# EAGLE library part IDUINO_DUE_PRO_DEVICE (library Iduino_DUE_Pro)
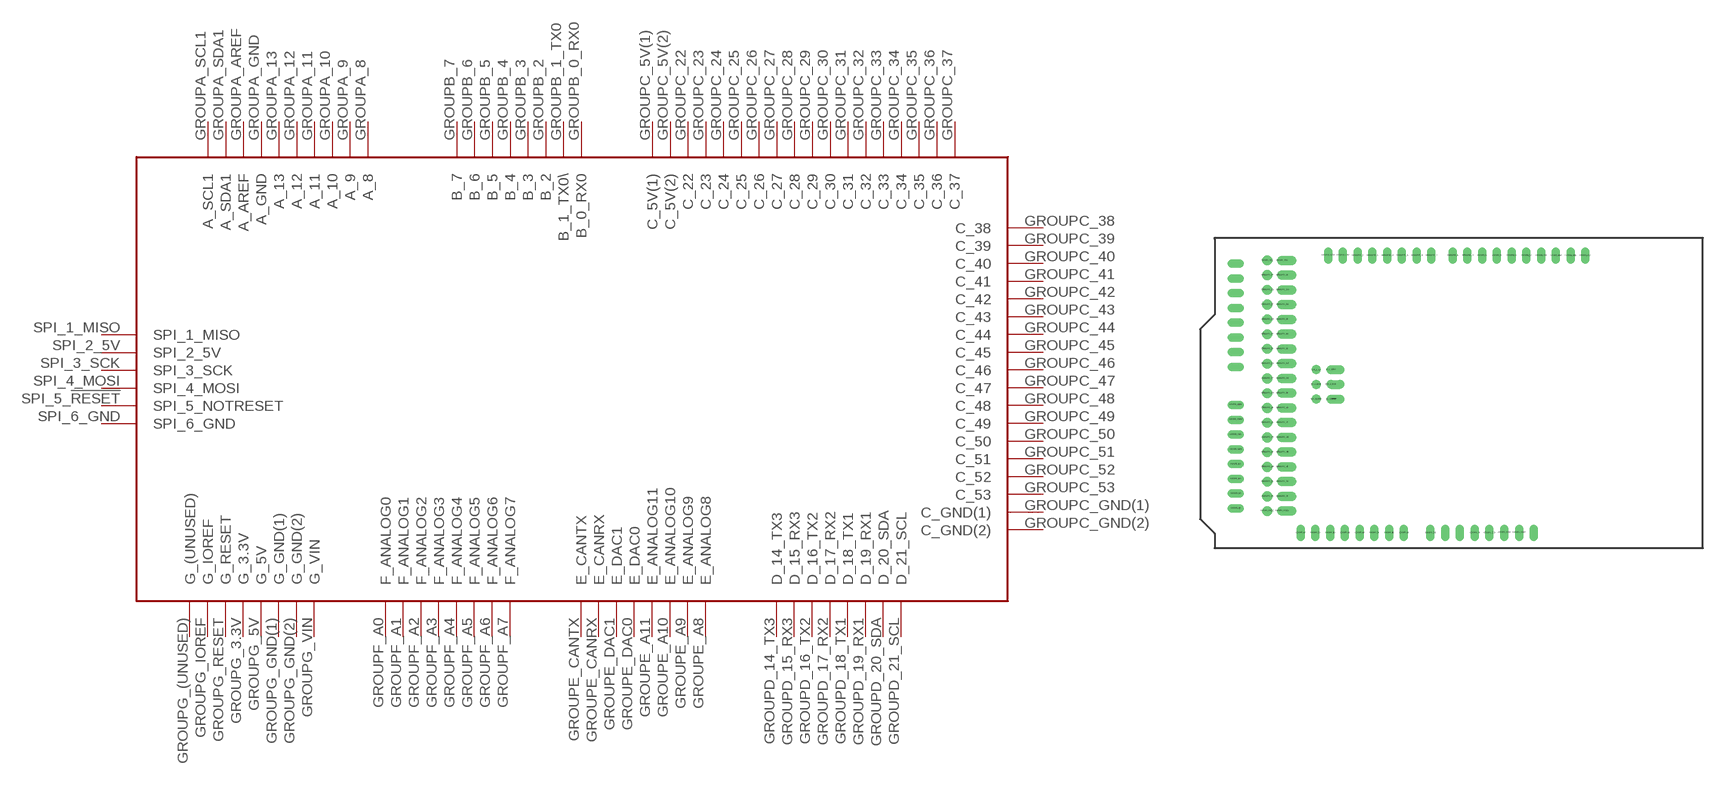
[diagram p0: symbol with the pads of ADCH_ARDUINO-DUE-V03; footprint ADCH_ARDUINO-DUE-V03]

Designator prefix -

## IDUINO_DUE_PRO_DEVICE  [ADCH_ARDUINO-DUE-V03]
GROUPA_8  A_8
GROUPA_9  A_9
GROUPA_10  A_10
GROUPA_11  A_11
GROUPA_12  A_12
GROUPA_13  A_13
GROUPA_AREF  A_AREF
GROUPA_GND  A_GND
GROUPA_SCL1  A_SCL1
GROUPA_SDA1  A_SDA1
GROUPB_0_RX0  B_0_RX0
GROUPB_1_TX0  B_1_TX0\
GROUPB_2  B_2
GROUPB_3  B_3
GROUPB_4  B_4
GROUPB_5  B_5
GROUPB_6  B_6
GROUPB_7  B_7
GROUPC_5V(1)  C_5V(1)
GROUPC_5V(2)  C_5V(2)
GROUPC_22  C_22
GROUPC_23  C_23
GROUPC_24  C_24
GROUPC_25  C_25
GROUPC_26  C_26
GROUPC_27  C_27
GROUPC_28  C_28
GROUPC_29  C_29
GROUPC_30  C_30
GROUPC_31  C_31
GROUPC_32  C_32
GROUPC_33  C_33
GROUPC_34  C_34
GROUPC_35  C_35
GROUPC_36  C_36
GROUPC_37  C_37
GROUPC_38  C_38
GROUPC_39  C_39
GROUPC_40  C_40
GROUPC_41  C_41
GROUPC_42  C_42
GROUPC_43  C_43
GROUPC_44  C_44
GROUPC_45  C_45
GROUPC_46  C_46
GROUPC_47  C_47
GROUPC_48  C_48
GROUPC_49  C_49
GROUPC_50  C_50
GROUPC_51  C_51
GROUPC_52  C_52
GROUPC_53  C_53
GROUPC_GND(1)  C_GND(1)
GROUPC_GND(2)  C_GND(2)
GROUPD_14_TX3  D_14_TX3
GROUPD_15_RX3  D_15_RX3
GROUPD_16_TX2  D_16_TX2
GROUPD_17_RX2  D_17_RX2
GROUPD_18_TX1  D_18_TX1
GROUPD_19_RX1  D_19_RX1
GROUPD_20_SDA  D_20_SDA
GROUPD_21_SCL  D_21_SCL
GROUPE_A8  E_ANALOG8
GROUPE_A9  E_ANALOG9
GROUPE_A10  E_ANALOG10
GROUPE_A11  E_ANALOG11
GROUPE_CANRX  E_CANRX
GROUPE_CANTX  E_CANTX
GROUPE_DAC0  E_DAC0
GROUPE_DAC1  E_DAC1
GROUPF_A0  F_ANALOG0
GROUPF_A1  F_ANALOG1
GROUPF_A2  F_ANALOG2
GROUPF_A3  F_ANALOG3
GROUPF_A4  F_ANALOG4
GROUPF_A5  F_ANALOG5
GROUPF_A6  F_ANALOG6
GROUPF_A7  F_ANALOG7
GROUPG_3.3V  G_3.3V
GROUPG_5V  G_5V
GROUPG_(UNUSED)  G_(UNUSED)
GROUPG_GND(1)  G_GND(1)
GROUPG_GND(2)  G_GND(2)
GROUPG_IOREF  G_IOREF
GROUPG_RESET  G_RESET
GROUPG_VIN  G_VIN
SPI_1_MISO  SPI_1_MISO
SPI_2_5V  SPI_2_5V
SPI_3_SCK  SPI_3_SCK
SPI_4_MOSI  SPI_4_MOSI
SPI_5_!RESET  SPI_5_NOTRESET
SPI_6_GND  SPI_6_GND

## Footprint ADCH_ARDUINO-DUE-V03 (pad centres in mm)
Package generated by make-group2pac.ulp from: D:/Documents/Google Drive/Y4S2/AERO3760 Space Engineering 2/PCB/arduino-Due-Reference-design/Arduino-DUE-V03.brd at: 24/08/2016 5:26 PM
drill 0.85 pad 1.422 long: GROUPA_8 43.344,50.3; GROUPA_9 45.884,50.3; GROUPA_10 48.424,50.3; GROUPA_11 50.964,50.3; GROUPA_12 53.504,50.3; GROUPA_13 56.044,50.3; GROUPA_AREF 61.124,50.3; GROUPA_GND 58.584,50.3; GROUPA_SCL1 66.204,50.3; GROUPA_SDA1 63.664,50.3; GROUPB_0_RX0 21.9,50.3; GROUPB_1_TX0 24.44,50.3; GROUPB_2 26.98,50.3; GROUPB_3 29.52,50.3; GROUPB_4 32.06,50.3; GROUPB_5 34.6,50.3; GROUPB_6 37.14,50.3; GROUPB_7 39.68,50.3; GROUPD_14_TX3 6,48.9; GROUPD_15_RX3 6,46.36; GROUPD_16_TX2 6,43.82; GROUPD_17_RX2 6,41.28; GROUPD_18_TX1 6,38.74; GROUPD_19_RX1 6,36.2; GROUPD_20_SDA 6,33.66; GROUPD_21_SCL 6,31.12; GROUPE_A8 6,6.77; GROUPE_A9 6,9.31; GROUPE_A10 6,11.85; GROUPE_A11 6,14.39; GROUPE_CANRX 6,22.01; GROUPE_CANTX 6,24.55; GROUPE_DAC0 6,16.93; GROUPE_DAC1 6,19.47; GROUPF_A0 34.95,2.54; GROUPF_A1 32.41,2.54; GROUPF_A2 29.87,2.54; GROUPF_A3 27.33,2.54; GROUPF_A4 24.79,2.54; GROUPF_A5 22.25,2.54; GROUPF_A6 19.71,2.54; GROUPF_A7 17.17,2.54; GROUPG_3.3V 49.69,2.54; GROUPG_5V 47.15,2.54; GROUPG_(UNUSED) 57.31,2.54; GROUPG_GND(1) 44.61,2.54; GROUPG_GND(2) 42.07,2.54; GROUPG_IOREF 54.77,2.54; GROUPG_RESET 52.23,2.54; GROUPG_VIN 39.53,2.54
drill 0.95 pad 1.676 offset: GROUPC_5V(1) 13.97,49.45; GROUPC_22 13.97,46.91; GROUPC_24 13.97,44.37; GROUPC_26 13.97,41.83; GROUPC_28 13.97,39.29; GROUPC_30 13.97,36.75; GROUPC_32 13.97,34.21; GROUPC_34 13.97,31.67; GROUPC_36 13.97,29.13; GROUPC_38 13.97,26.59; GROUPC_40 13.97,24.05; GROUPC_42 13.97,21.51; GROUPC_44 13.97,18.97; GROUPC_46 13.97,16.43; GROUPC_48 13.97,13.89; GROUPC_50 13.97,11.35; GROUPC_52 13.97,8.81; GROUPC_GND(1) 13.97,6.27
drill 0.95 pad 1.676: GROUPC_5V(2) 11.43,49.45; GROUPC_23 11.43,46.91; GROUPC_25 11.43,44.37; GROUPC_27 11.43,41.83; GROUPC_29 11.43,39.29; GROUPC_31 11.43,36.75; GROUPC_33 11.43,34.21; GROUPC_35 11.43,31.67; GROUPC_37 11.43,29.13; GROUPC_39 11.43,26.59; GROUPC_41 11.43,24.05; GROUPC_43 11.43,21.51; GROUPC_45 11.43,18.97; GROUPC_47 11.43,16.43; GROUPC_49 11.43,13.89; GROUPC_51 11.43,11.35; GROUPC_53 11.43,8.81; GROUPC_GND(2) 11.43,6.27
drill 0.95 pad 1.55 offset: SPI_1_MISO 22.373,30.63; SPI_3_SCK 22.373,28.09; SPI_5_!RESET 22.373,25.55
drill 0.95 pad 1.55: SPI_2_5V 19.833,30.63; SPI_4_MOSI 19.833,28.09; SPI_6_GND 19.833,25.55